# Altium schematic symbol library 无刷驱动-CYT2BL3-FD6288-FOC-LiteDual.SchLib: 33 symbols
Pins are listed as number, name and electrical type; pins without a type are passive.

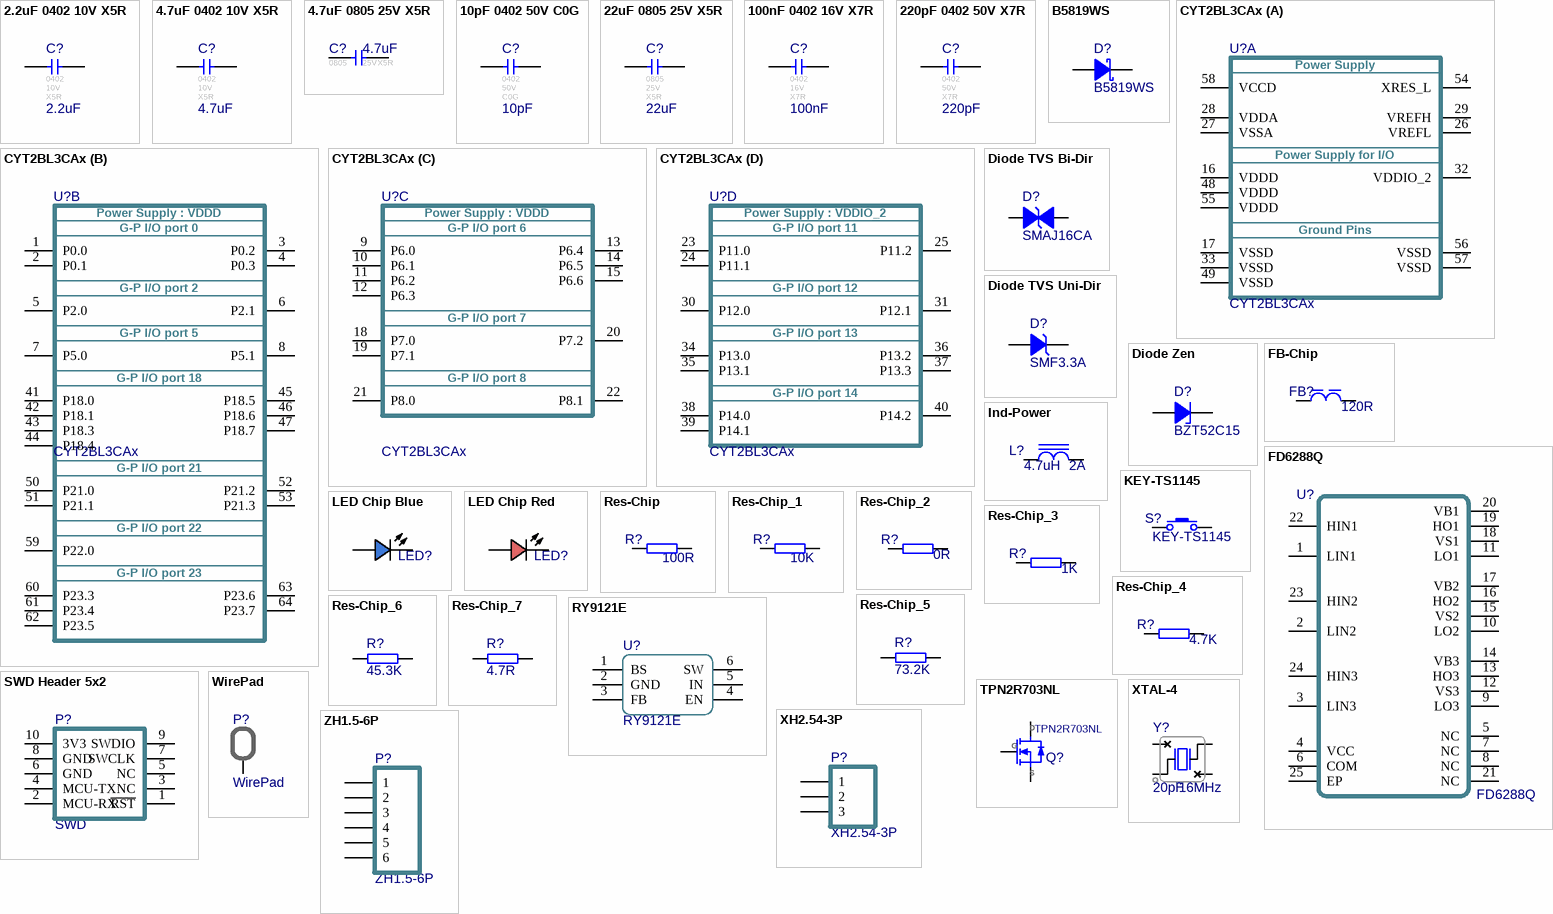
[diagram p0: symbols 2.2uF 0402 10V X5R to ZH1.5-6P]

## 2.2uF 0402 10V X5R
designator C?, comment value 2.2uF  FootPrint: 0402  Voltage: 10V  Type: X5R  (hidden comment: 2.2uF 10V X5R)
贴片瓷片电容; MLCC; 0402(1005);; Revision: V1.0
footprint CAPC1005[0402]-L (0402贴片电容 无丝印 2脚 1.00x0.50mm IPC高密度)
footprint CAPC1005[0402]-M (0402贴片电容 无丝印 2脚 1.00x0.50mm IPC低密度)
footprint CAPC1005[0402]-N (0402贴片电容 无丝印 2脚 1.00x0.50mm IPC中密度)
footprint CAPC1005[0402]S-L (0402贴片电容 有丝印 2脚 1.00x0.50mm IPC高密度)
footprint CAPC1005[0402]S-M (0402贴片电容 有丝印 2脚 1.00x0.50mm IPC低密度)
footprint CAPC1005[0402]S-N (0402贴片电容 有丝印 2脚 1.00x0.50mm IPC中密度)
pins: 1, 2

## 4.7uF 0402 10V X5R
designator C?, comment value 4.7uF  FootPrint: 0402  Voltage: 10V  Type: X5R  (hidden comment: 4.7uF 10V X5R)
贴片瓷片电容; MLCC; 0402(1005);; Revision: V1.0
footprint CAPC1005[0402]-L (0402贴片电容 无丝印 2脚 1.00x0.50mm IPC高密度)
footprint CAPC1005[0402]-M (0402贴片电容 无丝印 2脚 1.00x0.50mm IPC低密度)
footprint CAPC1005[0402]-N (0402贴片电容 无丝印 2脚 1.00x0.50mm IPC中密度)
footprint CAPC1005[0402]S-L (0402贴片电容 有丝印 2脚 1.00x0.50mm IPC高密度)
footprint CAPC1005[0402]S-M (0402贴片电容 有丝印 2脚 1.00x0.50mm IPC低密度)
footprint CAPC1005[0402]S-N (0402贴片电容 有丝印 2脚 1.00x0.50mm IPC中密度)
pins: 1, 2

## 4.7uF 0805 25V X5R
designator C?, comment value 4.7uF  FootPrint: 0805  Voltage: 25V  Type: X5R  (hidden comment: 4.7uF 25V X5R)
贴片瓷片电容; MLCC; 0805(2012);; Revision: V1.0
footprint CAPC2012[0805] (0805贴片电容 无丝印 2脚 2.00x1.20mm IPC中密度)
footprint CAPC2012[0805]S-L (0805贴片电容 有丝印 2脚 2.00x1.20mm IPC高密度)
footprint CAPC2012[0805]S-M (0805贴片电容 有丝印 2脚 2.00x1.20mm IPC低密度)
footprint CAPC2012[0805]S-N (0805贴片电容 有丝印 2脚 2.00x1.20mm IPC中密度)
pins: 1, 2

## 10pF 0402 50V C0G
designator C?, comment value 10pF  FootPrint: 0402  Voltage: 50V  Type: C0G  (hidden comment: 10pF 50V C0G)
贴片瓷片电容; MLCC; 0402(1005);; Revision: V1.0
footprint CAPC1005[0402]-L (0402贴片电容 无丝印 2脚 1.00x0.50mm IPC高密度)
footprint CAPC1005[0402]-M (0402贴片电容 无丝印 2脚 1.00x0.50mm IPC低密度)
footprint CAPC1005[0402]-N (0402贴片电容 无丝印 2脚 1.00x0.50mm IPC中密度)
footprint CAPC1005[0402]S-L (0402贴片电容 有丝印 2脚 1.00x0.50mm IPC高密度)
footprint CAPC1005[0402]S-M (0402贴片电容 有丝印 2脚 1.00x0.50mm IPC低密度)
footprint CAPC1005[0402]S-N (0402贴片电容 有丝印 2脚 1.00x0.50mm IPC中密度)
pins: 1, 2

## 22uF 0805 25V X5R
designator C?, comment value 22uF  FootPrint: 0805  Voltage: 25V  Type: X5R  (hidden comment: 22uF 25V X5R)
贴片瓷片电容; MLCC; 0805(2012);; Revision: V1.0
footprint CAPC2012[0805] (0805贴片电容 无丝印 2脚 2.00x1.20mm IPC中密度)
footprint CAPC2012[0805]S-L (0805贴片电容 有丝印 2脚 2.00x1.20mm IPC高密度)
footprint CAPC2012[0805]S-M (0805贴片电容 有丝印 2脚 2.00x1.20mm IPC低密度)
footprint CAPC2012[0805]S-N (0805贴片电容 有丝印 2脚 2.00x1.20mm IPC中密度)
pins: 1, 2

## 100nF 0402 16V X7R
designator C?, comment value 100nF  FootPrint: 0402  Voltage: 16V  Type: X7R  (hidden comment: 100nF 16V X7R)
贴片瓷片电容; MLCC; 0402(1005);; Revision: V1.0
footprint CAPC1005[0402]-L (0402贴片电容 无丝印 2脚 1.00x0.50mm IPC高密度)
footprint CAPC1005[0402]-M (0402贴片电容 无丝印 2脚 1.00x0.50mm IPC低密度)
footprint CAPC1005[0402]-N (0402贴片电容 无丝印 2脚 1.00x0.50mm IPC中密度)
footprint CAPC1005[0402]S-L (0402贴片电容 有丝印 2脚 1.00x0.50mm IPC高密度)
footprint CAPC1005[0402]S-M (0402贴片电容 有丝印 2脚 1.00x0.50mm IPC低密度)
footprint CAPC1005[0402]S-N (0402贴片电容 有丝印 2脚 1.00x0.50mm IPC中密度)
pins: 1, 2

## 220pF 0402 50V X7R
designator C?, comment value 220pF  FootPrint: 0402  Voltage: 50V  Type: X7R  (hidden comment: 220pF 50V X7R)
贴片瓷片电容; MLCC; 0402(1005);; Revision: V1.0
footprint CAPC1005[0402]-L (0402贴片电容 无丝印 2脚 1.00x0.50mm IPC高密度)
footprint CAPC1005[0402]-M (0402贴片电容 无丝印 2脚 1.00x0.50mm IPC低密度)
footprint CAPC1005[0402]-N (0402贴片电容 无丝印 2脚 1.00x0.50mm IPC中密度)
footprint CAPC1005[0402]S-L (0402贴片电容 有丝印 2脚 1.00x0.50mm IPC高密度)
footprint CAPC1005[0402]S-M (0402贴片电容 有丝印 2脚 1.00x0.50mm IPC低密度)
footprint CAPC1005[0402]S-N (0402贴片电容 有丝印 2脚 1.00x0.50mm IPC中密度)
pins: 1, 2

## B5819WS
designator D?
B5819WS 肖特基二极管; Revision: V1.0; Value: B5819WS
footprint SOD-323 (SOD Diode;1.65mm W X 1.24mm L X 1.16mm H body)
pins: A, K

## CYT2BL3CAx
designator U?
footprint LQFP64_L (Thin QFP, 64-Leads, Body 10x10mm, Pitch 0.5mm, IPC High Density)
footprint LQFP64_M (Thin QFP, 64-Leads, Body 10x10mm, Pitch 0.5mm, IPC Low Density)
footprint LQFP64_N (Thin QFP, 64-Leads, Body 10x10mm, Pitch 0.5mm, IPC Medium Density)
part A pins: 16 VDDD, 17 VSSD, 26 VREFL, 27 VSSA, 28 VDDA, 29 VREFH, 32 VDDIO_2, 33 VSSD, 48 VDDD, 49 VSSD, 54 XRES_L, 55 VDDD, 56 VSSD, 57 VSSD, 58 VCCD
part B pins: 1 P0.0, 2 P0.1, 3 P0.2, 4 P0.3, 5 P2.0, 6 P2.1, 7 P5.0, 8 P5.1, 41 P18.0, 42 P18.1, 43 P18.3, 44 P18.4, 45 P18.5, 46 P18.6, 47 P18.7, 50 P21.0, 51 P21.1, 52 P21.2, 53 P21.3, 59 P22.0, 60 P23.3, 61 P23.4, 62 P23.5, 63 P23.6, 64 P23.7
part C pins: 9 P6.0, 10 P6.1, 11 P6.2, 12 P6.3, 13 P6.4, 14 P6.5, 15 P6.6, 18 P7.0, 19 P7.1, 20 P7.2, 21 P8.0, 22 P8.1
part D pins: 23 P11.0, 24 P11.1, 25 P11.2, 30 P12.0, 31 P12.1, 34 P13.0, 35 P13.1, 36 P13.2, 37 P13.3, 38 P14.0, 39 P14.1, 40 P14.2
part A text: Power Supply; Power Supply for I/O; Ground Pins
part B text: Power Supply : VDDD; G-P I/O port 0; G-P I/O port 2; G-P I/O port 5; G-P I/O port 18; G-P I/O port 21; G-P I/O port 22; G-P I/O port 23
part C text: Power Supply : VDDD; G-P I/O port 6; G-P I/O port 7; G-P I/O port 8
part D text: Power Supply : VDDIO_2; G-P I/O port 11; G-P I/O port 12; G-P I/O port 13; G-P I/O port 14

## Diode TVS Bi-Dir
designator D?, comment SMAJ16CA
TRANSIENT VOLTAGE  SUPPRESSOR DIODE; Imax: 500mA; Published: 8-Jun-2000; Publisher: Altium Limited; Price(RMB): 0.000
footprint DO-41 (Diode,Axial;8.30mm C X 0.70mm W 4.60mm L X 2.40mm Dia)
footprint SMA[DO-214AC] (Molded Diode, 2-Leads, Body 5.00x2.49mm, IPC Medium Density)
footprint SMB[DO-214AA] (Molded Diode, 2-Leads, Body 5.30x3.55mm, IPC Medium Density)
footprint SMC[DO-214AB] (Molded Diode, 2-Leads, Body 7.94x5.90mm, IPC Medium Density)
footprint SOD-123-FL (SOD Diode;2.70mm W X 1.60mm L X 1.35mm H body)
footprint SOD-323 (SOD Diode;1.65mm W X 1.24mm L X 1.16mm H body)
footprint SOD-523-M (SODFL Diode;1.20mm W X 0.80mm L X 0.70mm H body)
footprint SOD-123-L (SOD Diode;2.70mm W X 1.60mm L X 1.35mm H body)
footprint SOD-123-M (SOD Diode;2.70mm W X 1.60mm L X 1.35mm H body)
footprint SOD-523-L (SODFL Diode;1.20mm W X 0.80mm L X 0.70mm H body)
footprint SMC[DO-214AB]-Bi (Molded Diode, 2-Leads, Body 7.94x5.90mm, IPC Medium Density)
footprint SMA[DO-214AC]-Bi
pins: A, K

## Diode TVS Uni-Dir
designator D?, comment SMF3.3A
TRANSIENT VOLTAGE  SUPPRESSOR DIODE; Imax: 500mA; Published: 8-Jun-2000; Publisher: Altium Limited; Price(RMB): 0.000
footprint DO-41 (Diode,Axial;8.30mm C X 0.70mm W 4.60mm L X 2.40mm Dia)
footprint SMA[DO-214AC] (Molded Diode, 2-Leads, Body 5.00x2.49mm, IPC Medium Density)
footprint SMB[DO-214AA] (Molded Diode, 2-Leads, Body 5.30x3.55mm, IPC Medium Density)
footprint SMC[DO-214AB] (Molded Diode, 2-Leads, Body 7.94x5.90mm, IPC Medium Density)
footprint SOD-123-FL (SOD Diode;2.70mm W X 1.60mm L X 1.35mm H body)
footprint SOD-323 (SOD Diode;1.65mm W X 1.24mm L X 1.16mm H body)
footprint SOD-123-L (SOD Diode;2.70mm W X 1.60mm L X 1.35mm H body)
footprint SOD-523-L (SODFL Diode;1.20mm W X 0.80mm L X 0.70mm H body)
footprint SOD-123-M (SOD Diode;2.70mm W X 1.60mm L X 1.35mm H body)
footprint SOD-523-M (SODFL Diode;1.20mm W X 0.80mm L X 0.70mm H body)
pins: A, K

## Diode Zen
designator D?, comment BZT52C15
稳压二极管 齐纳二极管  Zener Diode; Published: 8-Jun-2000; Revision: July-2002: Re-released for DXP Platform.; Publisher: Altium Limited; Price(RMB): 0.000
footprint DIODE-0.7 (Zener Diode; 2 Leads)
footprint DIODE-0.4
footprint SOD-87[LL-41] (MELF Diode, 2-Leads, Body 5.00x2.49mm, IPC Medium Density)
footprint CD4521-1808
footprint SOD-80[LL-34] (MELF Diode, 2-Leads, Body 3.55x1.65mm, IPC Medium Density)
footprint SOD-123-FL (SOD Diode;2.70mm W X 1.60mm L X 1.35mm H body)
footprint SOD-123-L (SOD Diode;2.70mm W X 1.60mm L X 1.35mm H body)
footprint SOD-123-M (SOD Diode;2.70mm W X 1.60mm L X 1.35mm H body)
footprint SOD-323 (SOD Diode;1.65mm W X 1.24mm L X 1.16mm H body)
footprint SOD-523-L (SODFL Diode;1.20mm W X 0.80mm L X 0.70mm H body)
footprint SOD-523-M (SODFL Diode;1.20mm W X 0.80mm L X 0.70mm H body)
pins: A, K

## FB-Chip
designator FB?, comment value 120R  (hidden comment: 120R @100MHz 500mA)
贴片磁珠; DCR: .1m; Published: 2020-12-18; Revision: V1.0; Frequency: @100MHz; Imax: 500mA
footprint INDC1608[0603]S (Not in IPC, Chip Inductor,Silkscreen Border, 2-Leads, Body 1.60x0.80mm, IPC Medium Density)
footprint INDC2012[0805]S (Chip Inductor,Silkscreen Border, 2-Leads, Body 2.00x0.90mm, IPC Medium Density)
footprint INDC3216[1206]S (Chip Inductor,Silkscreen Border, 2-Leads, Body 3.20x1.60mm, IPC Medium Density)
footprint INDC4509[1806]S (Chip Inductor,Silkscreen Border, 2-Leads, Body 4.50x0.90mm, IPC Medium Density)
footprint INDC1005[0402] (Chip Inductor, 2-Leads, Body 1.00x0.50mm, IPC Medium Density)
footprint INDC1608[0603] (Chip Inductor, 2-Leads, Body 1.60x0.80mm, IPC Medium Density)
footprint INDC2012[0805] (Chip Inductor, 2-Leads, Body 2.00x0.90mm, IPC Medium Density)
footprint INDC3216[1206] (Chip Inductor, 2-Leads, Body 3.20x1.60mm, IPC Medium Density)
footprint INDC3225[1210] (Capacitor,non-polarized,Chip;3.20mm L X 2.50mm W X 1.35mm H)
footprint INDC3216[1206] (Chip Inductor, 2-Leads, Body 3.20x1.60mm, IPC Medium Density)
footprint INDC1005[0402]S (Chip Inductor, 2-Leads, Body 1.00x0.50mm, IPC Medium Density)
pins: 1, 2

## FD6288Q
designator U?
FD6288Q 三相栅极驱动器
footprint QFN24-4x4
footprint QFN24-4x4-L
pins: 1 LIN1, 2 LIN2, 3 LIN3, 4 VCC, 5 NC, 6 COM, 7 NC, 8 NC, 9 LO3, 10 LO2, 11 LO1, 12 VS3, 13 HO3, 14 VB3, 15 VS2, 16 HO2, 17 VB2, 18 VS1, 19 HO1, 20 VB1, 21 NC, 22 HIN1, 23 HIN2, 24 HIN3, 25 EP

## Ind-Power
designator L?, comment value 4.7uH  Imax: 2A  (hidden comment: 4.7uH 2A)
功率电感; DCR: .5m; Published: 8-Jun-2000; Revision: July-2002: Re-released for DXP Platform.; Publisher: Altium Limited; Price(RMB): 0.000
footprint CD31
footprint CD32
footprint CD42
footprint CD43
footprint CD52
footprint CD53
footprint CD54
footprint CD73
footprint CD75
footprint CD104
footprint CD105
footprint CD106
footprint 127 Shielded 12.5*12.5*7 (12.5mmx12.5mmx7mm 屏蔽电感)
footprint 0630 TPC 7*7*3 (12mmx12mmx6.5mm 一体成型功率电感)
footprint 1050 TPC 10*10*5 (12mmx12mmx6.5mm 一体成型功率电感)
footprint 1265 TPC 12*12*6.5 (12mmx12mmx6.5mm 一体成型功率电感)
footprint CD104R
footprint SLO2520
footprint 1365 TPC 13*13*6.5 (13mmx13mmx6.5mm 一体成型功率电感)
footprint INDUCTOR (工字电感 安装板专用封装)
footprint 0402 TPC 4*4*2 (4.2mm x 4.4mm x 2mm 一体成型功率电感)
pins: 1, 2

## KEY-TS1145
designator S?
3x4x2.5 4脚按键 贴片 垂直按压; Revision: V1.0; Value: KEY-TS1145
footprint TS1145-B-A (3x4x2.5 4脚贴片按键 包脚 160gf)
footprint TS1145-C-A (3x4x2.5 4脚贴片按键 包脚 260gf)
pins: 1, 2

## LED Chip Blue
designator LED?, comment 蓝色贴片LED  (value not drawn)
Color: Blue; Published: 8-Jun-2000; Revision: July-2002: Re-released for DXP Platform.; Publisher: Altium Limited; Price(RMB): 0.00
footprint LEDC1608(0603) (LED,Chip;1.60mm L X 0.80mm W X 0.80mm H)
footprint LEDC2012(0805) (LED,Chip;2.00mm L X 1.25mm W X 1.20mm H)
footprint LEDC3216(1206) (LED,Chip;3.20mm L X 1.60mm W X 1.30mm H)
footprint LEDC1608(0603)-L (LED,Chip;1.60mm L X 0.80mm W X 0.80mm H)
footprint LEDC2012(0805)-L (LED,Chip;2.00mm L X 1.25mm W X 1.20mm H)
footprint LEDC3216(1204) (LED,Chip;3.20mm L X 1.60mm W X 1.30mm H)
footprint LEDC3528-2 (3528 2脚 贴片LED)
pins: A, C

## LED Chip Red
designator LED?, comment 红色贴片LED  (value not drawn)
Published: 8-Jun-2000; Revision: July-2002: Re-released for DXP Platform.; Publisher: Altium Limited; Price(RMB): 0.00
footprint LEDC1608(0603) (LED,Chip;1.60mm L X 0.80mm W X 0.80mm H)
footprint LEDC2012(0805) (LED,Chip;2.00mm L X 1.25mm W X 1.20mm H)
footprint LEDC3216(1206) (LED,Chip;3.20mm L X 1.60mm W X 1.30mm H)
footprint LEDC1608(0603)-L (LED,Chip;1.60mm L X 0.80mm W X 0.80mm H)
footprint LEDC2012(0805)-L (LED,Chip;2.00mm L X 1.25mm W X 1.20mm H)
footprint LEDC3216(1204) (LED,Chip;3.20mm L X 1.60mm W X 1.30mm H)
footprint LEDC3528-2 (3528 2脚 贴片LED)
pins: A, C

## Res-Chip
designator R?, comment value 100R  (hidden comment: 100R ±1%)
贴片电阻; Revision: V1.0; Tolerance: ±1%
footprint RESC0603[0201]-L (0201贴片电阻 无丝印 2脚 0.60x0.30mm IPC高密度)
footprint RESC0603[0201]-M (0201贴片电阻 无丝印 2脚 0.60x0.30mm IPC低密度)
footprint RESC0603[0201]-N (0201贴片电阻 无丝印 2脚 0.60x0.30mm IPC中密度)
footprint RESC0603[0201]S-L (0201贴片电阻 有丝印 2脚 0.60x0.30mm IPC高密度)
footprint RESC0603[0201]S-M (0201贴片电阻 有丝印 2脚 0.60x0.30mm IPC低密度)
footprint RESC0603[0201]S-N (0201贴片电阻 有丝印 2脚 0.60x0.30mm IPC中密度)
footprint RESC1005[0402]-L (0402贴片电阻 无丝印 2脚 1.00x0.50mm IPC高密度)
footprint RESC1005[0402]-M (0402贴片电阻 无丝印 2脚 1.00x0.50mm IPC低密度)
footprint RESC1005[0402]-N (0402贴片电阻 无丝印 2脚 1.00x0.50mm IPC中密度)
footprint RESC1005[0402]S-L (0402贴片电阻 有丝印 2脚 1.00x0.50mm IPC高密度)
footprint RESC1005[0402]S-M (0402贴片电阻 有丝印 2脚 1.00x0.50mm IPC低密度)
footprint RESC1005[0402]S-N (0402贴片电阻 有丝印 2脚 1.00x0.50mm IPC中密度)
footprint RESC1608[0603]-L (0603贴片电阻 无丝印 2脚 1.60x0.80mm IPC高密度)
footprint RESC1608[0603]-M (0603贴片电阻 无丝印 2脚 1.60x0.80mm IPC低密度)
footprint RESC1608[0603]-N (0603贴片电阻 无丝印 2脚 1.60x0.80mm IPC中密度)
footprint RESC1608[0603]S-L (0603贴片电阻 有丝印 2脚 1.60x0.80mm IPC高密度)
footprint RESC1608[0603]S-M (0603贴片电阻 有丝印 2脚 1.60x0.80mm IPC低密度)
footprint RESC1608[0603]S-N (0603贴片电阻 有丝印 2脚 1.60x0.80mm IPC中密度)
footprint RESC2012[0805] (0805贴片电阻 无丝印 2脚 2.00x1.20mm IPC高密度)
footprint RESC2012[0805]S-L (0805贴片电阻 有丝印 2脚 2.00x1.20mm IPC高密度)
footprint RESC2012[0805]S-M (0805贴片电阻 有丝印 2脚 2.00x1.20mm IPC低密度)
footprint RESC2012[0805]S-N (0805贴片电阻 有丝印 2脚 2.00x1.20mm IPC中密度)
footprint RESC3216[1206] (1206贴片电阻 无丝印 2脚 3.20x1.60mm IPC高密度)
footprint RESC3216[1206]S-L (1206贴片电阻 有丝印 2脚 3.20x1.60mm IPC高密度)
footprint RESC3216[1206]S-M (1206贴片电阻 有丝印 2脚 3.20x1.60mm IPC低密度)
footprint RESC3216[1206]S-N (1206贴片电阻 有丝印 2脚 3.20x1.60mm IPC中密度)
footprint RESC3225[1210] (Chip Resistor, 2-Leads, Body 3.20x2.49mm, IPC Medium Density)
footprint RESC3225[1210]S (Silkscreen Outside, Chip Resistor, 2-Leads, Body 3.20x2.49mm, IPC Medium Density)
footprint RESC5025[2010] (Chip Resistor, 2-Leads, Body 5.00x2.50mm, IPC Medium Density)
footprint RESC5025[2010]S (Silkscreen Outside, Chip Resistor, 2-Leads, Body 5.00x2.50mm, IPC Medium Density)
footprint RESC6332[2512] (2512贴片电阻 无丝印 2脚 6.30x3.20mm IPC中密度)
footprint RESC6332[2512]S (2512贴片电阻 有丝印 2脚 6.30x3.20mm IPC中密度)
pins: 1, 2

## Res-Chip_1
designator R?, comment value 10K  (hidden comment: 10K ±1%)
贴片电阻; Revision: V1.0; Tolerance: ±1%
footprint RESC0603[0201]-L (0201贴片电阻 无丝印 2脚 0.60x0.30mm IPC高密度)
footprint RESC0603[0201]-M (0201贴片电阻 无丝印 2脚 0.60x0.30mm IPC低密度)
footprint RESC0603[0201]-N (0201贴片电阻 无丝印 2脚 0.60x0.30mm IPC中密度)
footprint RESC0603[0201]S-L (0201贴片电阻 有丝印 2脚 0.60x0.30mm IPC高密度)
footprint RESC0603[0201]S-M (0201贴片电阻 有丝印 2脚 0.60x0.30mm IPC低密度)
footprint RESC0603[0201]S-N (0201贴片电阻 有丝印 2脚 0.60x0.30mm IPC中密度)
footprint RESC1005[0402]-L (0402贴片电阻 无丝印 2脚 1.00x0.50mm IPC高密度)
footprint RESC1005[0402]-M (0402贴片电阻 无丝印 2脚 1.00x0.50mm IPC低密度)
footprint RESC1005[0402]-N (0402贴片电阻 无丝印 2脚 1.00x0.50mm IPC中密度)
footprint RESC1005[0402]S-L (0402贴片电阻 有丝印 2脚 1.00x0.50mm IPC高密度)
footprint RESC1005[0402]S-M (0402贴片电阻 有丝印 2脚 1.00x0.50mm IPC低密度)
footprint RESC1005[0402]S-N (0402贴片电阻 有丝印 2脚 1.00x0.50mm IPC中密度)
footprint RESC1608[0603]-L (0603贴片电阻 无丝印 2脚 1.60x0.80mm IPC高密度)
footprint RESC1608[0603]-M (0603贴片电阻 无丝印 2脚 1.60x0.80mm IPC低密度)
footprint RESC1608[0603]-N (0603贴片电阻 无丝印 2脚 1.60x0.80mm IPC中密度)
footprint RESC1608[0603]S-L (0603贴片电阻 有丝印 2脚 1.60x0.80mm IPC高密度)
footprint RESC1608[0603]S-M (0603贴片电阻 有丝印 2脚 1.60x0.80mm IPC低密度)
footprint RESC1608[0603]S-N (0603贴片电阻 有丝印 2脚 1.60x0.80mm IPC中密度)
footprint RESC2012[0805] (0805贴片电阻 无丝印 2脚 2.00x1.20mm IPC高密度)
footprint RESC2012[0805]S-L (0805贴片电阻 有丝印 2脚 2.00x1.20mm IPC高密度)
footprint RESC2012[0805]S-M (0805贴片电阻 有丝印 2脚 2.00x1.20mm IPC低密度)
footprint RESC2012[0805]S-N (0805贴片电阻 有丝印 2脚 2.00x1.20mm IPC中密度)
footprint RESC3216[1206] (1206贴片电阻 无丝印 2脚 3.20x1.60mm IPC高密度)
footprint RESC3216[1206]S-L (1206贴片电阻 有丝印 2脚 3.20x1.60mm IPC高密度)
footprint RESC3216[1206]S-M (1206贴片电阻 有丝印 2脚 3.20x1.60mm IPC低密度)
footprint RESC3216[1206]S-N (1206贴片电阻 有丝印 2脚 3.20x1.60mm IPC中密度)
footprint RESC3225[1210] (Chip Resistor, 2-Leads, Body 3.20x2.49mm, IPC Medium Density)
footprint RESC3225[1210]S (Silkscreen Outside, Chip Resistor, 2-Leads, Body 3.20x2.49mm, IPC Medium Density)
footprint RESC5025[2010] (Chip Resistor, 2-Leads, Body 5.00x2.50mm, IPC Medium Density)
footprint RESC5025[2010]S (Silkscreen Outside, Chip Resistor, 2-Leads, Body 5.00x2.50mm, IPC Medium Density)
footprint RESC6332[2512] (2512贴片电阻 无丝印 2脚 6.30x3.20mm IPC中密度)
footprint RESC6332[2512]S (2512贴片电阻 有丝印 2脚 6.30x3.20mm IPC中密度)
pins: 1, 2

## Res-Chip_2
designator R?, comment value 0R  (hidden comment: 0R ±1%)
贴片电阻; Revision: V1.0; Tolerance: ±1%
footprint RESC0603[0201]-L (0201贴片电阻 无丝印 2脚 0.60x0.30mm IPC高密度)
footprint RESC0603[0201]-M (0201贴片电阻 无丝印 2脚 0.60x0.30mm IPC低密度)
footprint RESC0603[0201]-N (0201贴片电阻 无丝印 2脚 0.60x0.30mm IPC中密度)
footprint RESC0603[0201]S-L (0201贴片电阻 有丝印 2脚 0.60x0.30mm IPC高密度)
footprint RESC0603[0201]S-M (0201贴片电阻 有丝印 2脚 0.60x0.30mm IPC低密度)
footprint RESC0603[0201]S-N (0201贴片电阻 有丝印 2脚 0.60x0.30mm IPC中密度)
footprint RESC1005[0402]-L (0402贴片电阻 无丝印 2脚 1.00x0.50mm IPC高密度)
footprint RESC1005[0402]-M (0402贴片电阻 无丝印 2脚 1.00x0.50mm IPC低密度)
footprint RESC1005[0402]-N (0402贴片电阻 无丝印 2脚 1.00x0.50mm IPC中密度)
footprint RESC1005[0402]S-L (0402贴片电阻 有丝印 2脚 1.00x0.50mm IPC高密度)
footprint RESC1005[0402]S-M (0402贴片电阻 有丝印 2脚 1.00x0.50mm IPC低密度)
footprint RESC1005[0402]S-N (0402贴片电阻 有丝印 2脚 1.00x0.50mm IPC中密度)
footprint RESC1608[0603]-L (0603贴片电阻 无丝印 2脚 1.60x0.80mm IPC高密度)
footprint RESC1608[0603]-M (0603贴片电阻 无丝印 2脚 1.60x0.80mm IPC低密度)
footprint RESC1608[0603]-N (0603贴片电阻 无丝印 2脚 1.60x0.80mm IPC中密度)
footprint RESC1608[0603]S-L (0603贴片电阻 有丝印 2脚 1.60x0.80mm IPC高密度)
footprint RESC1608[0603]S-M (0603贴片电阻 有丝印 2脚 1.60x0.80mm IPC低密度)
footprint RESC1608[0603]S-N (0603贴片电阻 有丝印 2脚 1.60x0.80mm IPC中密度)
footprint RESC2012[0805] (0805贴片电阻 无丝印 2脚 2.00x1.20mm IPC高密度)
footprint RESC2012[0805]S-L (0805贴片电阻 有丝印 2脚 2.00x1.20mm IPC高密度)
footprint RESC2012[0805]S-M (0805贴片电阻 有丝印 2脚 2.00x1.20mm IPC低密度)
footprint RESC2012[0805]S-N (0805贴片电阻 有丝印 2脚 2.00x1.20mm IPC中密度)
footprint RESC3216[1206] (1206贴片电阻 无丝印 2脚 3.20x1.60mm IPC高密度)
footprint RESC3216[1206]S-L (1206贴片电阻 有丝印 2脚 3.20x1.60mm IPC高密度)
footprint RESC3216[1206]S-M (1206贴片电阻 有丝印 2脚 3.20x1.60mm IPC低密度)
footprint RESC3216[1206]S-N (1206贴片电阻 有丝印 2脚 3.20x1.60mm IPC中密度)
footprint RESC3225[1210] (Chip Resistor, 2-Leads, Body 3.20x2.49mm, IPC Medium Density)
footprint RESC3225[1210]S (Silkscreen Outside, Chip Resistor, 2-Leads, Body 3.20x2.49mm, IPC Medium Density)
footprint RESC5025[2010] (Chip Resistor, 2-Leads, Body 5.00x2.50mm, IPC Medium Density)
footprint RESC5025[2010]S (Silkscreen Outside, Chip Resistor, 2-Leads, Body 5.00x2.50mm, IPC Medium Density)
footprint RESC6332[2512] (2512贴片电阻 无丝印 2脚 6.30x3.20mm IPC中密度)
footprint RESC6332[2512]S (2512贴片电阻 有丝印 2脚 6.30x3.20mm IPC中密度)
pins: 1, 2

## Res-Chip_3
designator R?, comment value 1K  (hidden comment: 1K ±1%)
贴片电阻; Revision: V1.0; Tolerance: ±1%
footprint RESC0603[0201]-L (0201贴片电阻 无丝印 2脚 0.60x0.30mm IPC高密度)
footprint RESC0603[0201]-M (0201贴片电阻 无丝印 2脚 0.60x0.30mm IPC低密度)
footprint RESC0603[0201]-N (0201贴片电阻 无丝印 2脚 0.60x0.30mm IPC中密度)
footprint RESC0603[0201]S-L (0201贴片电阻 有丝印 2脚 0.60x0.30mm IPC高密度)
footprint RESC0603[0201]S-M (0201贴片电阻 有丝印 2脚 0.60x0.30mm IPC低密度)
footprint RESC0603[0201]S-N (0201贴片电阻 有丝印 2脚 0.60x0.30mm IPC中密度)
footprint RESC1005[0402]-L (0402贴片电阻 无丝印 2脚 1.00x0.50mm IPC高密度)
footprint RESC1005[0402]-M (0402贴片电阻 无丝印 2脚 1.00x0.50mm IPC低密度)
footprint RESC1005[0402]-N (0402贴片电阻 无丝印 2脚 1.00x0.50mm IPC中密度)
footprint RESC1005[0402]S-L (0402贴片电阻 有丝印 2脚 1.00x0.50mm IPC高密度)
footprint RESC1005[0402]S-M (0402贴片电阻 有丝印 2脚 1.00x0.50mm IPC低密度)
footprint RESC1005[0402]S-N (0402贴片电阻 有丝印 2脚 1.00x0.50mm IPC中密度)
footprint RESC1608[0603]-L (0603贴片电阻 无丝印 2脚 1.60x0.80mm IPC高密度)
footprint RESC1608[0603]-M (0603贴片电阻 无丝印 2脚 1.60x0.80mm IPC低密度)
footprint RESC1608[0603]-N (0603贴片电阻 无丝印 2脚 1.60x0.80mm IPC中密度)
footprint RESC1608[0603]S-L (0603贴片电阻 有丝印 2脚 1.60x0.80mm IPC高密度)
footprint RESC1608[0603]S-M (0603贴片电阻 有丝印 2脚 1.60x0.80mm IPC低密度)
footprint RESC1608[0603]S-N (0603贴片电阻 有丝印 2脚 1.60x0.80mm IPC中密度)
footprint RESC2012[0805] (0805贴片电阻 无丝印 2脚 2.00x1.20mm IPC高密度)
footprint RESC2012[0805]S-L (0805贴片电阻 有丝印 2脚 2.00x1.20mm IPC高密度)
footprint RESC2012[0805]S-M (0805贴片电阻 有丝印 2脚 2.00x1.20mm IPC低密度)
footprint RESC2012[0805]S-N (0805贴片电阻 有丝印 2脚 2.00x1.20mm IPC中密度)
footprint RESC3216[1206] (1206贴片电阻 无丝印 2脚 3.20x1.60mm IPC高密度)
footprint RESC3216[1206]S-L (1206贴片电阻 有丝印 2脚 3.20x1.60mm IPC高密度)
footprint RESC3216[1206]S-M (1206贴片电阻 有丝印 2脚 3.20x1.60mm IPC低密度)
footprint RESC3216[1206]S-N (1206贴片电阻 有丝印 2脚 3.20x1.60mm IPC中密度)
footprint RESC3225[1210] (Chip Resistor, 2-Leads, Body 3.20x2.49mm, IPC Medium Density)
footprint RESC3225[1210]S (Silkscreen Outside, Chip Resistor, 2-Leads, Body 3.20x2.49mm, IPC Medium Density)
footprint RESC5025[2010] (Chip Resistor, 2-Leads, Body 5.00x2.50mm, IPC Medium Density)
footprint RESC5025[2010]S (Silkscreen Outside, Chip Resistor, 2-Leads, Body 5.00x2.50mm, IPC Medium Density)
footprint RESC6332[2512] (2512贴片电阻 无丝印 2脚 6.30x3.20mm IPC中密度)
footprint RESC6332[2512]S (2512贴片电阻 有丝印 2脚 6.30x3.20mm IPC中密度)
pins: 1, 2

## Res-Chip_4
designator R?, comment value 4.7K  (hidden comment: 4.7K ±1%)
贴片电阻; Revision: V1.0; Tolerance: ±1%
footprint RESC0603[0201]-L (0201贴片电阻 无丝印 2脚 0.60x0.30mm IPC高密度)
footprint RESC0603[0201]-M (0201贴片电阻 无丝印 2脚 0.60x0.30mm IPC低密度)
footprint RESC0603[0201]-N (0201贴片电阻 无丝印 2脚 0.60x0.30mm IPC中密度)
footprint RESC0603[0201]S-L (0201贴片电阻 有丝印 2脚 0.60x0.30mm IPC高密度)
footprint RESC0603[0201]S-M (0201贴片电阻 有丝印 2脚 0.60x0.30mm IPC低密度)
footprint RESC0603[0201]S-N (0201贴片电阻 有丝印 2脚 0.60x0.30mm IPC中密度)
footprint RESC1005[0402]-L (0402贴片电阻 无丝印 2脚 1.00x0.50mm IPC高密度)
footprint RESC1005[0402]-M (0402贴片电阻 无丝印 2脚 1.00x0.50mm IPC低密度)
footprint RESC1005[0402]-N (0402贴片电阻 无丝印 2脚 1.00x0.50mm IPC中密度)
footprint RESC1005[0402]S-L (0402贴片电阻 有丝印 2脚 1.00x0.50mm IPC高密度)
footprint RESC1005[0402]S-M (0402贴片电阻 有丝印 2脚 1.00x0.50mm IPC低密度)
footprint RESC1005[0402]S-N (0402贴片电阻 有丝印 2脚 1.00x0.50mm IPC中密度)
footprint RESC1608[0603]-L (0603贴片电阻 无丝印 2脚 1.60x0.80mm IPC高密度)
footprint RESC1608[0603]-M (0603贴片电阻 无丝印 2脚 1.60x0.80mm IPC低密度)
footprint RESC1608[0603]-N (0603贴片电阻 无丝印 2脚 1.60x0.80mm IPC中密度)
footprint RESC1608[0603]S-L (0603贴片电阻 有丝印 2脚 1.60x0.80mm IPC高密度)
footprint RESC1608[0603]S-M (0603贴片电阻 有丝印 2脚 1.60x0.80mm IPC低密度)
footprint RESC1608[0603]S-N (0603贴片电阻 有丝印 2脚 1.60x0.80mm IPC中密度)
footprint RESC2012[0805] (0805贴片电阻 无丝印 2脚 2.00x1.20mm IPC高密度)
footprint RESC2012[0805]S-L (0805贴片电阻 有丝印 2脚 2.00x1.20mm IPC高密度)
footprint RESC2012[0805]S-M (0805贴片电阻 有丝印 2脚 2.00x1.20mm IPC低密度)
footprint RESC2012[0805]S-N (0805贴片电阻 有丝印 2脚 2.00x1.20mm IPC中密度)
footprint RESC3216[1206] (1206贴片电阻 无丝印 2脚 3.20x1.60mm IPC高密度)
footprint RESC3216[1206]S-L (1206贴片电阻 有丝印 2脚 3.20x1.60mm IPC高密度)
footprint RESC3216[1206]S-M (1206贴片电阻 有丝印 2脚 3.20x1.60mm IPC低密度)
footprint RESC3216[1206]S-N (1206贴片电阻 有丝印 2脚 3.20x1.60mm IPC中密度)
footprint RESC3225[1210] (Chip Resistor, 2-Leads, Body 3.20x2.49mm, IPC Medium Density)
footprint RESC3225[1210]S (Silkscreen Outside, Chip Resistor, 2-Leads, Body 3.20x2.49mm, IPC Medium Density)
footprint RESC5025[2010] (Chip Resistor, 2-Leads, Body 5.00x2.50mm, IPC Medium Density)
footprint RESC5025[2010]S (Silkscreen Outside, Chip Resistor, 2-Leads, Body 5.00x2.50mm, IPC Medium Density)
footprint RESC6332[2512] (2512贴片电阻 无丝印 2脚 6.30x3.20mm IPC中密度)
footprint RESC6332[2512]S (2512贴片电阻 有丝印 2脚 6.30x3.20mm IPC中密度)
pins: 1, 2

## Res-Chip_5
designator R?, comment value 73.2K  (hidden comment: 73.2K ±1%)
贴片电阻; Power: 1/8W; Revision: V1.0; Tolerance: ±1%
footprint RESC0603[0201]-L (0201贴片电阻 无丝印 2脚 0.60x0.30mm IPC高密度)
footprint RESC0603[0201]-M (0201贴片电阻 无丝印 2脚 0.60x0.30mm IPC低密度)
footprint RESC0603[0201]-N (0201贴片电阻 无丝印 2脚 0.60x0.30mm IPC中密度)
footprint RESC0603[0201]S-L (0201贴片电阻 有丝印 2脚 0.60x0.30mm IPC高密度)
footprint RESC0603[0201]S-M (0201贴片电阻 有丝印 2脚 0.60x0.30mm IPC低密度)
footprint RESC0603[0201]S-N (0201贴片电阻 有丝印 2脚 0.60x0.30mm IPC中密度)
footprint RESC1005[0402]-L (0402贴片电阻 无丝印 2脚 1.00x0.50mm IPC高密度)
footprint RESC1005[0402]S-M (0402贴片电阻 有丝印 2脚 1.00x0.50mm IPC低密度)
footprint RESC1005[0402]-M (0402贴片电阻 无丝印 2脚 1.00x0.50mm IPC低密度)
footprint RESC1005[0402]-N (0402贴片电阻 无丝印 2脚 1.00x0.50mm IPC中密度)
footprint RESC1005[0402]S-L (0402贴片电阻 有丝印 2脚 1.00x0.50mm IPC高密度)
footprint RESC1005[0402]S-N (0402贴片电阻 有丝印 2脚 1.00x0.50mm IPC中密度)
footprint RESC1608[0603]-L (0603贴片电阻 无丝印 2脚 1.60x0.80mm IPC高密度)
footprint RESC1608[0603]-M (0603贴片电阻 无丝印 2脚 1.60x0.80mm IPC低密度)
footprint RESC1608[0603]-N (0603贴片电阻 无丝印 2脚 1.60x0.80mm IPC中密度)
footprint RESC1608[0603]S-L (0603贴片电阻 有丝印 2脚 1.60x0.80mm IPC高密度)
footprint RESC1608[0603]S-M (0603贴片电阻 有丝印 2脚 1.60x0.80mm IPC低密度)
footprint RESC1608[0603]S-N (0603贴片电阻 有丝印 2脚 1.60x0.80mm IPC中密度)
footprint RESC2012[0805] (0805贴片电阻 无丝印 2脚 2.00x1.20mm IPC高密度)
footprint RESC2012[0805]S-L (0805贴片电阻 有丝印 2脚 2.00x1.20mm IPC高密度)
footprint RESC2012[0805]S-M (0805贴片电阻 有丝印 2脚 2.00x1.20mm IPC低密度)
footprint RESC2012[0805]S-N (0805贴片电阻 有丝印 2脚 2.00x1.20mm IPC中密度)
footprint RESC3216[1206] (1206贴片电阻 无丝印 2脚 3.20x1.60mm IPC高密度)
footprint RESC3216[1206]S-L (1206贴片电阻 有丝印 2脚 3.20x1.60mm IPC高密度)
footprint RESC3216[1206]S-M (1206贴片电阻 有丝印 2脚 3.20x1.60mm IPC低密度)
footprint RESC3216[1206]S-N (1206贴片电阻 有丝印 2脚 3.20x1.60mm IPC中密度)
footprint RESC3225[1210] (Chip Resistor, 2-Leads, Body 3.20x2.49mm, IPC Medium Density)
footprint RESC3225[1210]S (Silkscreen Outside, Chip Resistor, 2-Leads, Body 3.20x2.49mm, IPC Medium Density)
footprint RESC5025[2010] (Chip Resistor, 2-Leads, Body 5.00x2.50mm, IPC Medium Density)
footprint RESC5025[2010]S (Silkscreen Outside, Chip Resistor, 2-Leads, Body 5.00x2.50mm, IPC Medium Density)
footprint RESC6332[2512] (2512贴片电阻 无丝印 2脚 6.30x3.20mm IPC中密度)
footprint RESC6332[2512]S (2512贴片电阻 有丝印 2脚 6.30x3.20mm IPC中密度)
pins: 1, 2

## Res-Chip_6
designator R?, comment value 45.3K  (hidden comment: 45.3K ±1%)
贴片电阻; Power: 1/8W; Revision: V1.0; Tolerance: ±1%
footprint RESC0603[0201]-L (0201贴片电阻 无丝印 2脚 0.60x0.30mm IPC高密度)
footprint RESC0603[0201]-M (0201贴片电阻 无丝印 2脚 0.60x0.30mm IPC低密度)
footprint RESC0603[0201]-N (0201贴片电阻 无丝印 2脚 0.60x0.30mm IPC中密度)
footprint RESC0603[0201]S-L (0201贴片电阻 有丝印 2脚 0.60x0.30mm IPC高密度)
footprint RESC0603[0201]S-M (0201贴片电阻 有丝印 2脚 0.60x0.30mm IPC低密度)
footprint RESC0603[0201]S-N (0201贴片电阻 有丝印 2脚 0.60x0.30mm IPC中密度)
footprint RESC1005[0402]-L (0402贴片电阻 无丝印 2脚 1.00x0.50mm IPC高密度)
footprint RESC1005[0402]S-M (0402贴片电阻 有丝印 2脚 1.00x0.50mm IPC低密度)
footprint RESC1005[0402]-M (0402贴片电阻 无丝印 2脚 1.00x0.50mm IPC低密度)
footprint RESC1005[0402]-N (0402贴片电阻 无丝印 2脚 1.00x0.50mm IPC中密度)
footprint RESC1005[0402]S-L (0402贴片电阻 有丝印 2脚 1.00x0.50mm IPC高密度)
footprint RESC1005[0402]S-N (0402贴片电阻 有丝印 2脚 1.00x0.50mm IPC中密度)
footprint RESC1608[0603]-L (0603贴片电阻 无丝印 2脚 1.60x0.80mm IPC高密度)
footprint RESC1608[0603]-M (0603贴片电阻 无丝印 2脚 1.60x0.80mm IPC低密度)
footprint RESC1608[0603]-N (0603贴片电阻 无丝印 2脚 1.60x0.80mm IPC中密度)
footprint RESC1608[0603]S-L (0603贴片电阻 有丝印 2脚 1.60x0.80mm IPC高密度)
footprint RESC1608[0603]S-M (0603贴片电阻 有丝印 2脚 1.60x0.80mm IPC低密度)
footprint RESC1608[0603]S-N (0603贴片电阻 有丝印 2脚 1.60x0.80mm IPC中密度)
footprint RESC2012[0805] (0805贴片电阻 无丝印 2脚 2.00x1.20mm IPC高密度)
footprint RESC2012[0805]S-L (0805贴片电阻 有丝印 2脚 2.00x1.20mm IPC高密度)
footprint RESC2012[0805]S-M (0805贴片电阻 有丝印 2脚 2.00x1.20mm IPC低密度)
footprint RESC2012[0805]S-N (0805贴片电阻 有丝印 2脚 2.00x1.20mm IPC中密度)
footprint RESC3216[1206] (1206贴片电阻 无丝印 2脚 3.20x1.60mm IPC高密度)
footprint RESC3216[1206]S-L (1206贴片电阻 有丝印 2脚 3.20x1.60mm IPC高密度)
footprint RESC3216[1206]S-M (1206贴片电阻 有丝印 2脚 3.20x1.60mm IPC低密度)
footprint RESC3216[1206]S-N (1206贴片电阻 有丝印 2脚 3.20x1.60mm IPC中密度)
footprint RESC3225[1210] (Chip Resistor, 2-Leads, Body 3.20x2.49mm, IPC Medium Density)
footprint RESC3225[1210]S (Silkscreen Outside, Chip Resistor, 2-Leads, Body 3.20x2.49mm, IPC Medium Density)
footprint RESC5025[2010] (Chip Resistor, 2-Leads, Body 5.00x2.50mm, IPC Medium Density)
footprint RESC5025[2010]S (Silkscreen Outside, Chip Resistor, 2-Leads, Body 5.00x2.50mm, IPC Medium Density)
footprint RESC6332[2512] (2512贴片电阻 无丝印 2脚 6.30x3.20mm IPC中密度)
footprint RESC6332[2512]S (2512贴片电阻 有丝印 2脚 6.30x3.20mm IPC中密度)
pins: 1, 2

## Res-Chip_7
designator R?, comment value 4.7R  (hidden comment: 4.7R ±1%)
贴片电阻; Revision: V1.0; Tolerance: ±1%
footprint RESC0603[0201]-L (0201贴片电阻 无丝印 2脚 0.60x0.30mm IPC高密度)
footprint RESC0603[0201]-M (0201贴片电阻 无丝印 2脚 0.60x0.30mm IPC低密度)
footprint RESC0603[0201]-N (0201贴片电阻 无丝印 2脚 0.60x0.30mm IPC中密度)
footprint RESC0603[0201]S-L (0201贴片电阻 有丝印 2脚 0.60x0.30mm IPC高密度)
footprint RESC0603[0201]S-M (0201贴片电阻 有丝印 2脚 0.60x0.30mm IPC低密度)
footprint RESC0603[0201]S-N (0201贴片电阻 有丝印 2脚 0.60x0.30mm IPC中密度)
footprint RESC1005[0402]-L (0402贴片电阻 无丝印 2脚 1.00x0.50mm IPC高密度)
footprint RESC1005[0402]-M (0402贴片电阻 无丝印 2脚 1.00x0.50mm IPC低密度)
footprint RESC1005[0402]-N (0402贴片电阻 无丝印 2脚 1.00x0.50mm IPC中密度)
footprint RESC1005[0402]S-L (0402贴片电阻 有丝印 2脚 1.00x0.50mm IPC高密度)
footprint RESC1005[0402]S-M (0402贴片电阻 有丝印 2脚 1.00x0.50mm IPC低密度)
footprint RESC1005[0402]S-N (0402贴片电阻 有丝印 2脚 1.00x0.50mm IPC中密度)
footprint RESC1608[0603]-L (0603贴片电阻 无丝印 2脚 1.60x0.80mm IPC高密度)
footprint RESC1608[0603]-M (0603贴片电阻 无丝印 2脚 1.60x0.80mm IPC低密度)
footprint RESC1608[0603]-N (0603贴片电阻 无丝印 2脚 1.60x0.80mm IPC中密度)
footprint RESC1608[0603]S-L (0603贴片电阻 有丝印 2脚 1.60x0.80mm IPC高密度)
footprint RESC1608[0603]S-M (0603贴片电阻 有丝印 2脚 1.60x0.80mm IPC低密度)
footprint RESC1608[0603]S-N (0603贴片电阻 有丝印 2脚 1.60x0.80mm IPC中密度)
footprint RESC2012[0805] (0805贴片电阻 无丝印 2脚 2.00x1.20mm IPC高密度)
footprint RESC2012[0805]S-L (0805贴片电阻 有丝印 2脚 2.00x1.20mm IPC高密度)
footprint RESC2012[0805]S-M (0805贴片电阻 有丝印 2脚 2.00x1.20mm IPC低密度)
footprint RESC2012[0805]S-N (0805贴片电阻 有丝印 2脚 2.00x1.20mm IPC中密度)
footprint RESC3216[1206] (1206贴片电阻 无丝印 2脚 3.20x1.60mm IPC高密度)
footprint RESC3216[1206]S-L (1206贴片电阻 有丝印 2脚 3.20x1.60mm IPC高密度)
footprint RESC3216[1206]S-M (1206贴片电阻 有丝印 2脚 3.20x1.60mm IPC低密度)
footprint RESC3216[1206]S-N (1206贴片电阻 有丝印 2脚 3.20x1.60mm IPC中密度)
footprint RESC3225[1210] (Chip Resistor, 2-Leads, Body 3.20x2.49mm, IPC Medium Density)
footprint RESC3225[1210]S (Silkscreen Outside, Chip Resistor, 2-Leads, Body 3.20x2.49mm, IPC Medium Density)
footprint RESC5025[2010] (Chip Resistor, 2-Leads, Body 5.00x2.50mm, IPC Medium Density)
footprint RESC5025[2010]S (Silkscreen Outside, Chip Resistor, 2-Leads, Body 5.00x2.50mm, IPC Medium Density)
footprint RESC6332[2512] (2512贴片电阻 无丝印 2脚 6.30x3.20mm IPC中密度)
footprint RESC6332[2512]S (2512贴片电阻 有丝印 2脚 6.30x3.20mm IPC中密度)
pins: 1, 2

## RY9121E
designator U?
17V 2A 1.2MHz Synchronous Step-Down Regulator; Revision: V1.0; Value: RY9121E
footprint SOT-23-6 (SOT23, 6-Leads, Body 2.90x2.80mm, Pitch 0.95mm, IPC Medium Density)
pins: 1 BS, 2 GND, 3 FB, 4 EN, 5 IN, 6 SW

## SWD Header 5x2
designator P?  value SWD  (hidden comment: SWD Header 5x2)  (no BOM)
SWD调试接口 2x5pin 双排针; Revision: V1.0
footprint HDR2X5-M-SMT (2x5pin, 2.54mm间距, SMT, 直排针)
footprint HDR2X5-M (2x5pin, 2.54mm间距, 直插, 直排针)
footprint IDC2.54-10-DV (IDC (DC3) 2.54 10Pin 直插 竖直 简易牛角座)
footprint IDC2.54-10-SV (IDC (DC3) 2.54 10Pin 贴片 竖直 简易牛角座)
footprint IDC2.54-10-DH (IDC (DC3) 2.54 10Pin 直插 水平 简易牛角座)
footprint HDR2X5-OB (Jlink OB / DAP下载器等 横向焊接双排针)
pins: 1 ~{RST}, 2 MCU-RX, 3 NC, 4 MCU-TX, 5 NC, 6 GND, 7 SWCLK, 8 GND, 9 SWDIO, 10 3V3

## TPN2R703NL
designator Q?
东芝 N沟 MOS
footprint TSON3x3
pins: 1 D, 2 G, 3 S

## WirePad
designator P?  (no BOM)
线缆焊盘
footprint WirePad-4x6 (焊线盘 表贴 4mm x 6mm)
footprint WirePad-4.5x7 (焊线盘 表贴 4.5mm x 7mm)
pins: 1

## XH2.54-3P
designator P?
Revision: V1.0; Value: XH2.54-3P
footprint XH2.54-3P-DH (XH2.54-3P 直插 卧式)
footprint XH2.54-3P-SH (XH2.54-3P 贴片 卧式)
footprint XH2.54-3P-DV (XH2.54-3P 直插 立式)
pins: 1, 2, 3

## XTAL-4
designator Y?, comment Load_Capactiance: 20pF  Frequency: 16MHz  (hidden comment: 16MHz 20pF)
四脚无源晶振 Crystal Oscillator; Revision: V1.0
footprint X3225-4 (3225 4脚 晶振)
footprint X2016-4 (2016 4脚 晶振)
footprint X2520-4 (3225 4脚 晶振)
pins: 1 OSC1, 2 NC, 3 OSC2, 4 NC

## ZH1.5-6P
designator P?
Revision: V1.0; Value: ZH1.5-6P
footprint ZH1.5-6P-SH (ZH1.5-6P 贴片 卧式)
footprint ZH1.5-6P-DV (ZH1.5-6P 直插)
pins: 1, 2, 3, 4, 5, 6